# EAGLE library part AX88796C (library asix-v3)
Low-Power SPI or Non-PCI Ethernet Controller
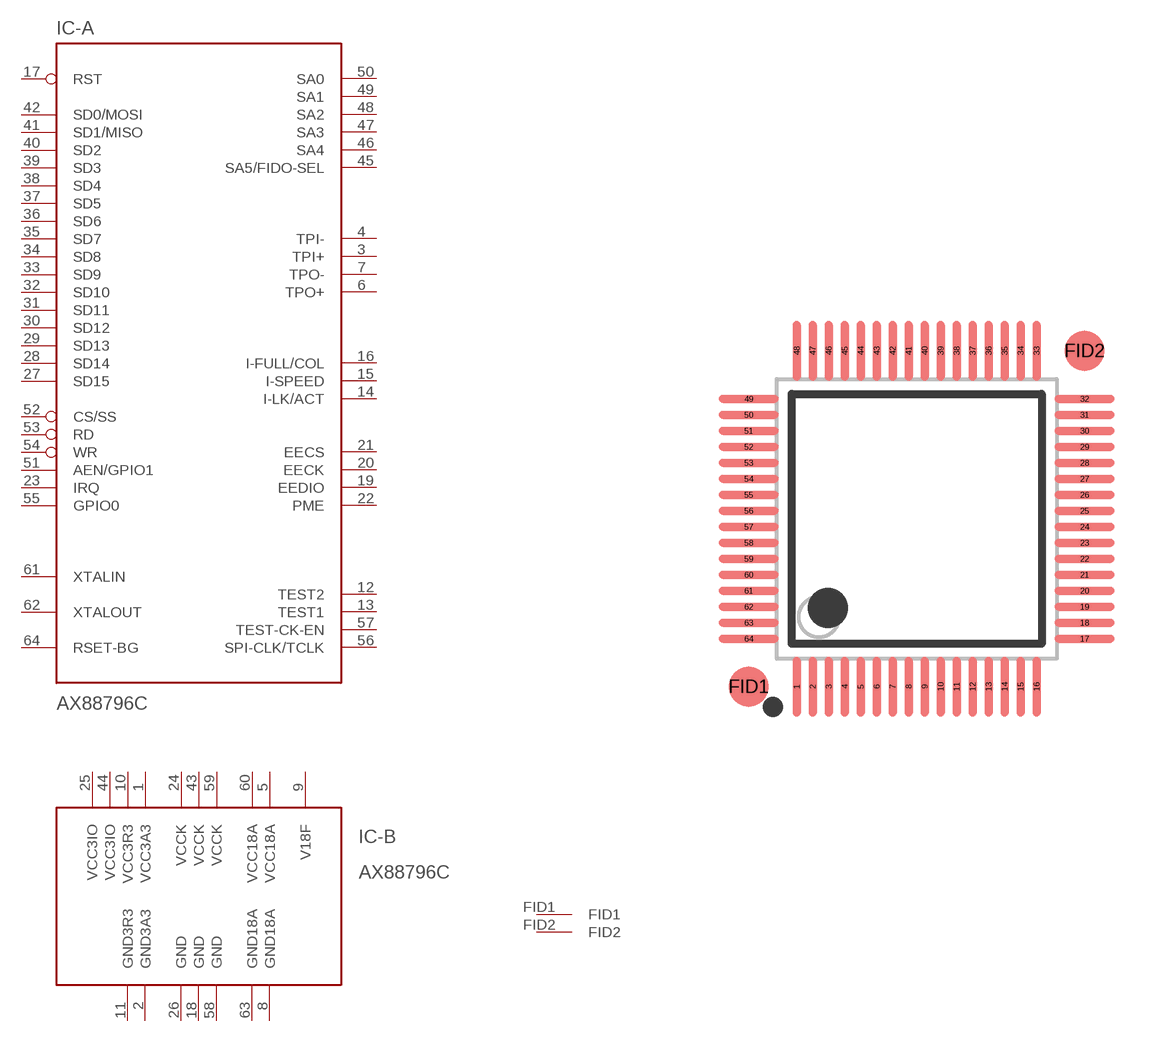
[diagram p2: symbol with the pads of QFP40P900X900X160-64N; footprint QFP40P900X900X160-64N]

Designator prefix IC; gates -A=AX88796C -B=AX88796B-POWER -C=FIDO

## AX88796C  [QFP40P900X900X160-64N]
1  -B:VCC3A3  pwr
2  -B:GND3A3  pwr
3  -A:TPI+
4  -A:TPI-
5  -B:VCC18A  pwr
6  -A:TPO+
7  -A:TPO-
8  -B:GND18A  pwr
9  -B:V18F  sup
10  -B:VCC3R3  pwr
11  -B:GND3R3  pwr
12  -A:TEST2  in
13  -A:TEST1  in
14  -A:I-LK/ACT
15  -A:I-SPEED
16  -A:I-FULL/COL
17  -A:RST  in
18  -B:GND  pwr
19  -A:EEDIO
20  -A:EECK
21  -A:EECS
22  -A:PME  out
23  -A:IRQ  out
24  -B:VCCK  pwr
25  -B:VCC3IO  pwr
26  -B:GND  pwr
27  -A:SD15
28  -A:SD14
29  -A:SD13
30  -A:SD12
31  -A:SD11
32  -A:SD10
33  -A:SD9
34  -A:SD8
35  -A:SD7
36  -A:SD6
37  -A:SD5
38  -A:SD4
39  -A:SD3
40  -A:SD2
41  -A:SD1/MISO
42  -A:SD0/MOSI
43  -B:VCCK  pwr
44  -B:VCC3IO  pwr
45  -A:SA5/FIDO-SEL  in
46  -A:SA4  in
47  -A:SA3  in
48  -A:SA2  in
49  -A:SA1  in
50  -A:SA0  in
51  -A:AEN/GPIO1  in
52  -A:CS/SS  in
53  -A:RD  in
54  -A:WR  in
55  -A:GPIO0  in
56  -A:SPI-CLK/TCLK  in
57  -A:TEST-CK-EN  in
58  -B:GND  pwr
59  -B:VCCK  pwr
60  -B:VCC18A  pwr
61  -A:XTALIN  in
62  -A:XTALOUT  out
63  -B:GND18A  pwr
64  -A:RSET-BG  out
FID1  -C:FID1  nc
FID2  -C:FID2  nc

## Footprint QFP40P900X900X160-64N (pad centres in mm)
QFP,0.40mm pitch,square;64 pin,7.00mm L X 7.00mm W X 1.60mm H body
smd 0.2 x 1.5: 1 -3,-4.2; 2 -2.6,-4.2; 3 -2.2,-4.2; 4 -1.8,-4.2; 5 -1.4,-4.2; 6 -1,-4.2; 7 -0.6,-4.2; 8 -0.2,-4.2; 9 0.2,-4.2; 10 0.6,-4.2; 11 1,-4.2; 12 1.4,-4.2; 13 1.8,-4.2; 14 2.2,-4.2; 15 2.6,-4.2; 16 3,-4.2; 33 3,4.2; 34 2.6,4.2; 35 2.2,4.2; 36 1.8,4.2; 37 1.4,4.2; 38 1,4.2; 39 0.6,4.2; 40 0.2,4.2; 41 -0.2,4.2; 42 -0.6,4.2; 43 -1,4.2; 44 -1.4,4.2; 45 -1.8,4.2; 46 -2.2,4.2; 47 -2.6,4.2; 48 -3,4.2
smd 1.5 x 0.2: 17 4.2,-3; 18 4.2,-2.6; 19 4.2,-2.2; 20 4.2,-1.8; 21 4.2,-1.4; 22 4.2,-1; 23 4.2,-0.6; 24 4.2,-0.2; 25 4.2,0.2; 26 4.2,0.6; 27 4.2,1; 28 4.2,1.4; 29 4.2,1.8; 30 4.2,2.2; 31 4.2,2.6; 32 4.2,3; 49 -4.2,3; 50 -4.2,2.6; 51 -4.2,2.2; 52 -4.2,1.8; 53 -4.2,1.4; 54 -4.2,1; 55 -4.2,0.6; 56 -4.2,0.2; 57 -4.2,-0.2; 58 -4.2,-0.6; 59 -4.2,-1; 60 -4.2,-1.4; 61 -4.2,-1.8; 62 -4.2,-2.2; 63 -4.2,-2.6; 64 -4.2,-3
smd 1 x 1: FID1 -4.2,-4.2; FID2 4.2,4.2